# Altium footprint library VHDR-SMD-20X2.PcbLib: 1 footprints
Each footprint in its own frame and in the unit in brackets; x right, y up, seen from the top. Pads: shape width x height; smd on the part's side, far side on the other; paste and mask are expansions set on the pad; w line width, h text height; cw(c..) or ccw(c..) is an arc to the next point about the centre after c.
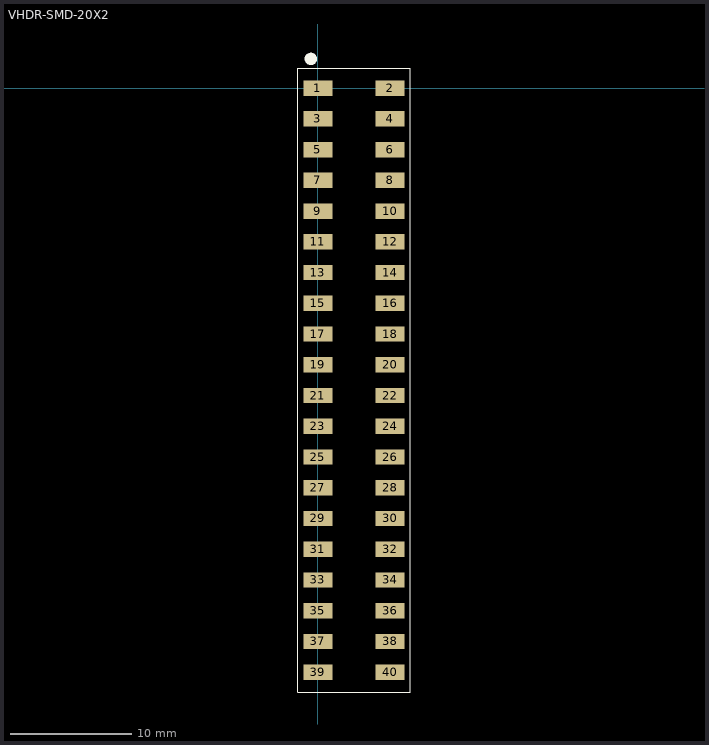
[diagram p0: the footprint, top view; thin cyan lines are the x and y axes]

## VHDR-SMD-20X2 [mil]
pads (40):
  rect 95x50 smd: 1(0,0) 2(235,0) 3(0,-100) 4(235,-100) 5(0,-200) 6(235,-200) 7(0,-300) 8(235,-300) 9(0,-400) 10(235,-400) 11(0,-500) 12(235,-500) 13(0,-600) 14(235,-600) 15(0,-700) 16(235,-700) 17(0,-800) 18(235,-800) 19(0,-900) 20(235,-900) 21(0,-1000) 22(235,-1000) 23(0,-1100) 24(235,-1100) 25(0,-1200) 26(235,-1200) 27(0,-1300) 28(235,-1300) 29(0,-1400) 30(235,-1400) 31(0,-1500) 32(235,-1500) 33(0,-1600) 34(235,-1600) 35(0,-1700) 36(235,-1700) 37(0,-1800) 38(235,-1800) 39(0,-1900) 40(235,-1900)
Top Overlay:
  circle w20: c-23.03,95 r10
  lines w3.94: -65,-1965 -65,65 300,65 300,-1965 -65,-1965